# Altium footprint library SelfLib.PcbLib: 55 footprints (part 3 of 4)
Each footprint in its own frame and in the unit in brackets; x right, y up, seen from the top. Pads: shape width x height; smd on the part's side, far side on the other; paste and mask are expansions set on the pad; w line width, h text height; cw(c..) or ccw(c..) is an arc to the next point about the centre after c.
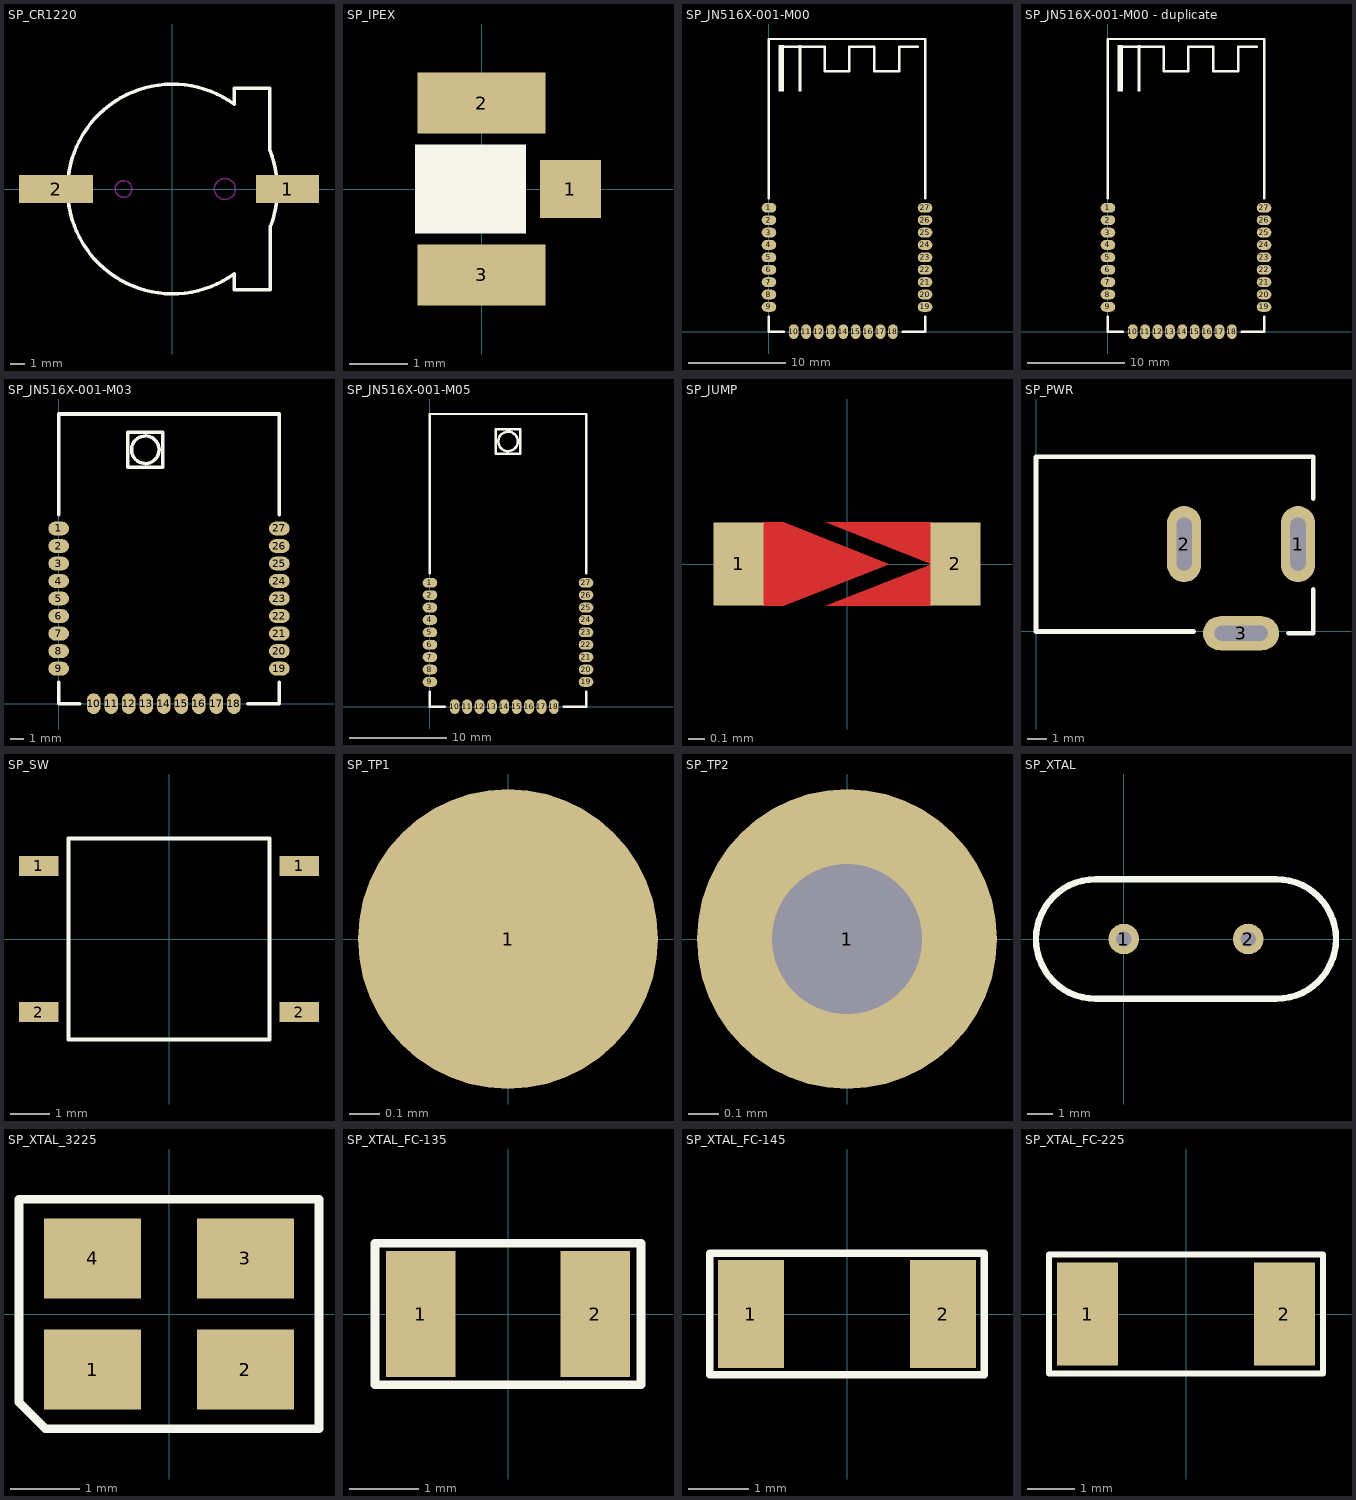
[diagram p2: the footprints below, top view; thin cyan lines are the x and y axes]

## SP_CR1220 [mm]
height 4
pads (2):
  rect 4.5x2 smd: 1(8.23,0)
  rect 5.3x2 smd: 2(-8.33,0)
Top Overlay:
  lines w0.254: 4.408,-7.2 6.948,-7.2 ; 4.408,-7.163 4.408,-6.068 cw(c0,0) 4.408,6.068 4.408,7.2 6.948,7.2 6.948,2.798 ; 6.959,2.798 cw(c0,0) 7.007,-2.675 ; 6.985,-7.2 6.985,-2.675
Keep-Out Layer:
  circle w0.1: c3.75,0 r0.75
  circle w0.1: c-3.5,0 r0.6

## SP_IPEX [mm]
height 2.5
pads (3):
  rect 1.05x1 smd: 1(1.525,0)
  rect 2.2x1.05 smd: 2(0,1.475) 3(0,-1.475)
Top Overlay:
  rectangle: -1.143,-0.762 0.762,0.762

## SP_JN516X-001-M00 [mm]
height 3.5
pads (27):
  oval 1.5x1 smd: 1(0,12.7) 2(0,11.43) 3(0,10.16) 4(0,8.89) 5(0,7.62) 6(0,6.35) 7(0,5.08) 8(0,3.81) 9(0,2.54) 19(16,2.54) 20(16,3.81) 21(16,5.08) 22(16,6.35) 23(16,7.62) 24(16,8.89) 25(16,10.16) 26(16,11.43) 27(16,12.7)
  oval 1x1.5 smd: 10(2.54,0) 11(3.81,0) 12(5.08,0) 13(6.35,0) 14(7.62,0) 15(8.89,0) 16(10.16,0) 17(11.43,0) 18(12.7,0)
Top Overlay:
  region: 1.016,29.337 1.524,29.337 1.524,24.638 1.016,24.638
  region: 3.048,24.638 3.302,24.638 3.302,29.337 3.048,29.337
  lines w0.254: 0,1.54 0,0 1.54,0 ; 0,13.7 0,30 16,30 16,13.7 ; 1.27,29.21 5.715,29.21 5.715,26.67 8.255,26.67 8.255,29.21 10.795,29.21 10.795,26.67 13.335,26.67 13.335,29.21 15.24,29.21 ; 13.7,0 16,0 16,1.54

## SP_JN516X-001-M00 - duplicate [mm]
height 3.5
pads (27):
  oval 1.5x1 smd: 1(0,12.7) 2(0,11.43) 3(0,10.16) 4(0,8.89) 5(0,7.62) 6(0,6.35) 7(0,5.08) 8(0,3.81) 9(0,2.54) 19(16,2.54) 20(16,3.81) 21(16,5.08) 22(16,6.35) 23(16,7.62) 24(16,8.89) 25(16,10.16) 26(16,11.43) 27(16,12.7)
  oval 1x1.5 smd: 10(2.54,0) 11(3.81,0) 12(5.08,0) 13(6.35,0) 14(7.62,0) 15(8.89,0) 16(10.16,0) 17(11.43,0) 18(12.7,0)
Top Overlay:
  region: 3.048,24.638 3.302,24.638 3.302,29.337 3.048,29.337
  region: 1.016,29.337 1.524,29.337 1.524,24.638 1.016,24.638
  lines w0.254: 0,1.54 0,0 1.54,0 ; 0,13.7 0,30 16,30 16,13.7 ; 1.27,29.21 5.715,29.21 5.715,26.67 8.255,26.67 8.255,29.21 10.795,29.21 10.795,26.67 13.335,26.67 13.335,29.21 15.24,29.21 ; 13.7,0 16,0 16,1.54

## SP_JN516X-001-M03 [mm]
height 3.5
pads (27):
  oval 1.5x1 smd: 1(0,12.7) 2(0,11.43) 3(0,10.16) 4(0,8.89) 5(0,7.62) 6(0,6.35) 7(0,5.08) 8(0,3.81) 9(0,2.54) 19(16,2.54) 20(16,3.81) 21(16,5.08) 22(16,6.35) 23(16,7.62) 24(16,8.89) 25(16,10.16) 26(16,11.43) 27(16,12.7)
  oval 1x1.5 smd: 10(2.54,0) 11(3.81,0) 12(5.08,0) 13(6.35,0) 14(7.62,0) 15(8.89,0) 16(10.16,0) 17(11.43,0) 18(12.7,0)
Top Overlay:
  circle w0.254: c6.28,18.41 r1
  lines w0.254: 0,1.54 0,0 1.54,0 ; 0,13.7 0,21 16,21 16,13.7 ; 13.7,0 16,0 16,1.54 ; 5.01,17.14 5.01,19.68 7.55,19.68 7.55,17.14 5.01,17.14

## SP_JN516X-001-M05 [mm]
height 3.5
pads (27):
  oval 1.5x1 smd: 1(0,12.7) 2(0,11.43) 3(0,10.16) 4(0,8.89) 5(0,7.62) 6(0,6.35) 7(0,5.08) 8(0,3.81) 9(0,2.54) 19(16,2.54) 20(16,3.81) 21(16,5.08) 22(16,6.35) 23(16,7.62) 24(16,8.89) 25(16,10.16) 26(16,11.43) 27(16,12.7)
  oval 1x1.5 smd: 10(2.54,0) 11(3.81,0) 12(5.08,0) 13(6.35,0) 14(7.62,0) 15(8.89,0) 16(10.16,0) 17(11.43,0) 18(12.7,0)
Top Overlay:
  circle w0.254: c8,27.19 r1
  lines w0.254: 0,1.54 0,0 1.54,0 ; 0,13.7 0,30 16,30 16,13.7 ; 13.7,0 16,0 16,1.54 ; 6.73,25.92 9.27,25.92 9.27,28.46 6.73,28.46 6.73,25.92

## SP_JUMP [mm]
height 1
pads (2):
  rect 0.3x0.5 smd: 1(-0.65,0) 2(0.65,0)
Top Layer:
  region: -0.127,0.25 0.508,0.25 0.508,-0.25 -0.127,-0.25 0.508,0
  region: -0.381,0.25 -0.508,0.25 -0.508,-0.25 -0.381,-0.25 0.254,0
Top Paste:
  region: -0.127,0.25 0.508,0.25 0.508,-0.25 -0.127,-0.25 0.508,0
  region: -0.381,0.25 -0.508,0.25 -0.508,-0.25 -0.381,-0.25 0.254,0
Top Solder:
  rectangle: -0.5,-0.3 0.5,0.3

## SP_PWR [mm]
height 12
pads (3):
  oval 1.8x4 hole 0.8 slot 2.8 at 90 deg: 1(13.8,4.6) 2(7.8,4.6)
  oval 4x1.8 hole 0.8 slot 2.8 at 0 deg: 3(10.8,-0.1)
Top Overlay:
  lines w0.254: 8.3,0 0,0 0,9.2 14.6,9.2 14.6,7 ; 13.3,-0.1 14.6,-0.1 ; 14.6,0 14.6,2.2

## SP_SW [mm]
height 1.5
pads (4):
  rect 1x0.5 smd: 1(-3.3,1.85) 1(3.3,1.85) 2(-3.3,-1.85) 2(3.3,-1.85)
Top Overlay:
  lines w0.1: -2.55,-2.55 -2.55,2.55 2.55,2.55 2.55,-2.55 -2.55,-2.55

## SP_TP1 [mm]
pads (1):
  round 1 smd: 1(0,0)

## SP_TP2 [mm]
pads (1):
  round 1 hole 0.5: 1(0,0)

## SP_XTAL [mm]
height 3
pads (2):
  round 1.2 hole 0.6: 1(0,0) 2(4.88,0)
Top Overlay:
  lines w0.254: -1.1,-2.35 cw(c-1.1,0) -1.1,2.35 5.98,2.35 cw(c5.98,0) 5.98,-2.35 -1.1,-2.35

## SP_XTAL_3225 [mm]
height 1.6
pads (4):
  rect 1.4x1.15 smd: 1(-1.1,-0.8) 2(1.1,-0.8) 3(1.1,0.8) 4(-1.1,0.8)
Top Overlay:
  lines w0.125: -2.159,-1.27 -2.159,1.651 2.159,1.651 2.159,-1.651 -1.778,-1.651 -2.159,-1.27

## SP_XTAL_FC-135 [mm]
height 0.8
pads (2):
  rect 1x1.8 smd: 1(-1.25,0) 2(1.25,0)
Top Overlay:
  lines w0.125: -1.905,-1.016 1.905,-1.016 1.905,1.016 -1.905,1.016 -1.905,-1.016

## SP_XTAL_FC-145 [mm]
pads (2):
  rect 1.1x1.8 smd: 1(-1.6,0) 2(1.6,0)
Top Overlay:
  lines w0.125: -2.286,-1.016 2.286,-1.016 2.286,1.016 -2.286,1.016 -2.286,-1.016

## SP_XTAL_FC-225 [mm]
pads (2):
  rect 1.3x2.2 smd: 1(-2.1,0) 2(2.1,0)
Top Overlay:
  lines w0.125: -2.921,-1.27 -2.921,1.27 2.921,1.27 2.921,-1.27 -2.921,-1.27